# Altium footprint library pads16zpcb.PcbLib: 2 footprints
Each footprint in its own frame and in the unit in brackets; x right, y up, seen from the top. Pads: shape width x height; smd on the part's side, far side on the other; paste and mask are expansions set on the pad; w line width, h text height; cw(c..) or ccw(c..) is an arc to the next point about the centre after c.
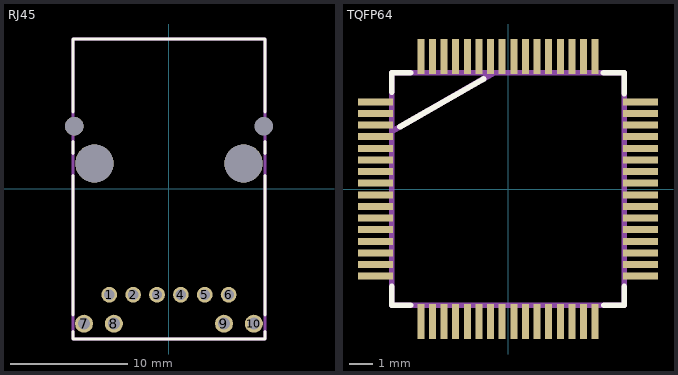
[diagram p0: the footprints below, top view; thin cyan lines are the x and y axes]

## RJ45 [mm]
pads (14):
  round 1.335 hole 0.89: 1(-5.065,-9) 2(-3.035,-9) 3(-1.005,-9) 4(1.025,-9) 5(3.055,-9) 6(5.085,-9)
  round 1.53 hole 1.02: 7(-7.215,-11.47) 8(-4.675,-11.47) 9(4.695,-11.47) 10(7.235,-11.47)
  round 1.57 hole 1.57 unplated: ""(-8.045,5.34)
  round 3.25 hole 3.25 unplated: ""(-6.335,2.17) ""(6.365,2.17)
  round 1.524 hole 1.57 unplated: ""(8.075,5.34)
Top Overlay:
  lines w0.254: -8.145,-12.145 -8.145,-12.77 8.165,-12.77 8.165,-12.145 ; -8.145,-10.72 -8.145,1.155 ; -8.145,3.03 -8.145,4.03 ; -8.145,6.53 -8.145,12.76 8.165,12.76 8.165,6.53 ; 8.165,-10.72 8.165,1.155 ; 8.165,3.03 8.165,4.03
Mechanical 13:
  lines w0.254: -8.145,-12.77 8.165,-12.77 8.165,12.76 -8.145,12.76 -8.145,-12.77
3D body: height 13.42, standoff 0, extent -8.275,-12.9 8.3,12.9

## TQFP64 [mm]
pads (64):
  rect 1.5x0.3 smd paste+0 mask+0.05: 1(-5.7,3.75) 2(-5.7,3.25) 3(-5.7,2.75) 4(-5.7,2.25) 5(-5.7,1.75) 6(-5.7,1.25) 7(-5.7,0.75) 8(-5.7,0.25) 9(-5.7,-0.25) 10(-5.7,-0.75) 11(-5.7,-1.25) 12(-5.7,-1.75) 13(-5.7,-2.25) 14(-5.7,-2.75) 15(-5.7,-3.25) 16(-5.7,-3.75) 33(5.7,-3.75) 34(5.7,-3.25) 35(5.7,-2.75) 36(5.7,-2.25) 37(5.7,-1.75) 38(5.7,-1.25) 39(5.7,-0.75) 40(5.7,-0.25) 41(5.7,0.25) 42(5.7,0.75) 43(5.7,1.25) 44(5.7,1.75) 45(5.7,2.25) 46(5.7,2.75) 47(5.7,3.25) 48(5.7,3.75)
  rect 0.3x1.5 smd paste+0 mask+0.05: 17(-3.75,-5.7) 18(-3.25,-5.7) 19(-2.75,-5.7) 20(-2.25,-5.7) 21(-1.75,-5.7) 22(-1.25,-5.7) 23(-0.75,-5.7) 24(-0.25,-5.7) 25(0.25,-5.7) 26(0.75,-5.7) 27(1.25,-5.7) 28(1.75,-5.7) 29(2.25,-5.7) 30(2.75,-5.7) 31(3.25,-5.7) 32(3.75,-5.7) 49(3.75,5.7) 50(3.25,5.7) 51(2.75,5.7) 52(2.25,5.7) 53(1.75,5.7) 54(1.25,5.7) 55(0.75,5.7) 56(0.25,5.7) 57(-0.25,5.7) 58(-0.75,5.7) 59(-1.25,5.7) 60(-1.75,5.7) 61(-2.25,5.7) 62(-2.75,5.7) 63(-3.25,5.7) 64(-3.75,5.7)
Top Overlay:
  lines w0.254: -5,-4.2 -5,-5 -4.2,-5 ; -5,4.175 -5,5 -4.2,5 ; -4.65,2.675 -1.05,4.725 ; 4.1,5 5,5 5,4.1 ; 4.125,-5 5,-5 5,-4.2
Mechanical 13:
  lines w0.254: -5,2.475 -0.6,5 ; -5,-5 -5,5 5,5 5,-5 -5,-5
3D body "SW3dPS-S-PQFP-G64.STEP": height 1, standoff 0, extent -5.812,-5.79 5.762,5.791